# EAGLE library part CAM-M8C-0 (library CAM-M8C-0)
None
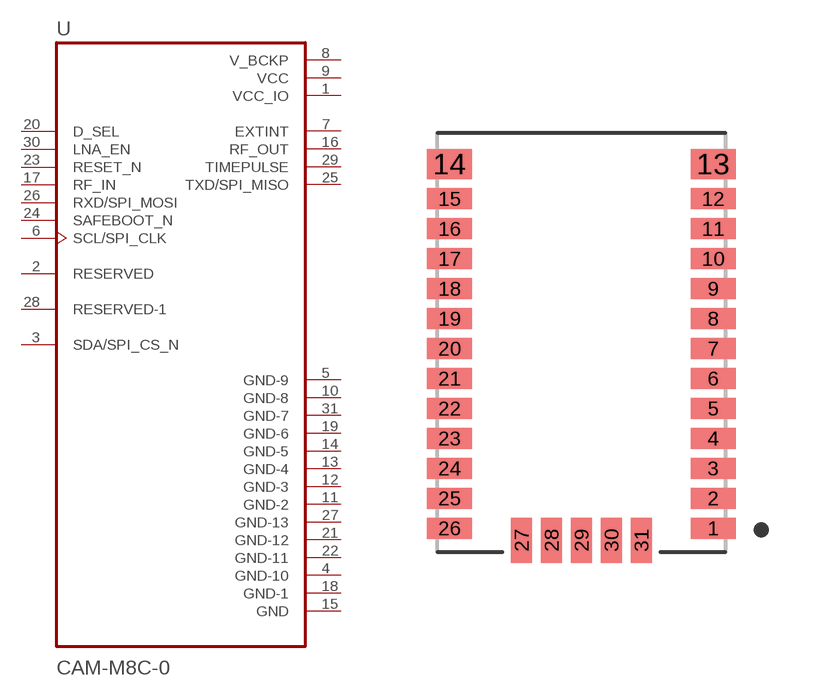
[diagram p0: symbol with the pads of LCC100P960X1400X210-31N; footprint LCC100P960X1400X210-31N]

Designator prefix U

## CAM-M8C-0 (Availability: Unavailable; Description: Ic Receiver Gps Chip Ant 31lcc; MF: U-Blox America; MP: CAM-M8C-0; Package: SMD-31 u-blox; Price: None)  [LCC100P960X1400X210-31N]
1  VCC_IO  pwr
2  RESERVED
3  SDA/SPI_CS_N
4  GND-10  pwr
5  GND-9  pwr
6  SCL/SPI_CLK  in
7  EXTINT  out
8  V_BCKP  pwr
9  VCC  pwr
10  GND-8  pwr
11  GND-2  pwr
12  GND-3  pwr
13  GND-4  pwr
14  GND-5  pwr
15  GND  pwr
16  RF_OUT  out
17  RF_IN  in
18  GND-1  pwr
19  GND-6  pwr
20  D_SEL  in
21  GND-12  pwr
22  GND-11  pwr
23  RESET_N  in
24  SAFEBOOT_N  in
25  TXD/SPI_MISO  out
26  RXD/SPI_MOSI  in
27  GND-13  pwr
28  RESERVED-1
29  TIMEPULSE  out
30  LNA_EN  in
31  GND-7  pwr

## Footprint LCC100P960X1400X210-31N (pad centres in mm)
smd 1.5 x 0.7: 1 4.4,-6.2; 2 4.4,-5.2; 3 4.4,-4.2; 4 4.4,-3.2; 5 4.4,-2.2; 6 4.4,-1.2; 7 4.4,-0.2; 8 4.4,0.8; 9 4.4,1.8; 10 4.4,2.8; 11 4.4,3.8; 12 4.4,4.8; 15 -4.4,4.8; 16 -4.4,3.8; 17 -4.4,2.8; 18 -4.4,1.8; 19 -4.4,0.8; 20 -4.4,-0.2; 21 -4.4,-1.2; 22 -4.4,-2.2; 23 -4.4,-3.2; 24 -4.4,-4.2; 25 -4.4,-5.2; 26 -4.4,-6.2
smd 1.5 x 1: 13 4.4,5.95; 14 -4.4,5.95
smd 0.7 x 1.5: 27 -2,-6.6; 28 -1,-6.6; 29 0,-6.6; 30 1,-6.6; 31 2,-6.6